# EAGLE library part PIC24FJ128GB204 (library clackboard_lib)
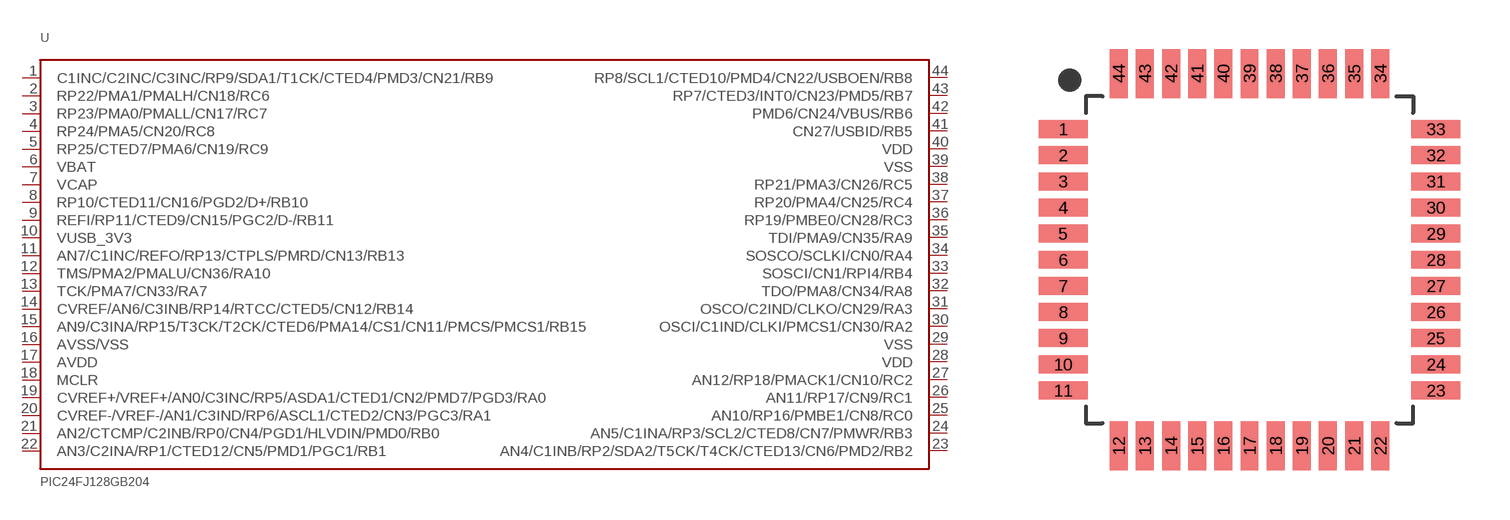
[diagram p8: symbol with the pads of PIC24FJ128GB204; footprint PIC24FJ128GB204]

Designator prefix U

## PIC24FJ128GB204  [PIC24FJ128GB204]
1  C1INC/C2INC/C3INC/RP9/SDA1/T1CK/CTED4/PMD3/CN21/RB9
2  RP22/PMA1/PMALH/CN18/RC6
3  RP23/PMA0/PMALL/CN17/RC7
4  RP24/PMA5/CN20/RC8
5  RP25/CTED7/PMA6/CN19/RC9
6  VBAT
7  VCAP
8  RP10/CTED11/CN16/PGD2/D+/RB10
9  REFI/RP11/CTED9/CN15/PGC2/D-/RB11
10  VUSB_3V3
11  AN7/C1INC/REFO/RP13/CTPLS/PMRD/CN13/RB13
12  TMS/PMA2/PMALU/CN36/RA10
13  TCK/PMA7/CN33/RA7
14  CVREF/AN6/C3INB/RP14/RTCC/CTED5/CN12/RB14
15  AN9/C3INA/RP15/T3CK/T2CK/CTED6/PMA14/CS1/CN11/PMCS/PMCS1/RB15
16  AVSS/VSS
17  AVDD
18  MCLR
19  CVREF+/VREF+/AN0/C3INC/RP5/ASDA1/CTED1/CN2/PMD7/PGD3/RA0
20  CVREF-/VREF-/AN1/C3IND/RP6/ASCL1/CTED2/CN3/PGC3/RA1
21  AN2/CTCMP/C2INB/RP0/CN4/PGD1/HLVDIN/PMD0/RB0
22  AN3/C2INA/RP1/CTED12/CN5/PMD1/PGC1/RB1
23  AN4/C1INB/RP2/SDA2/T5CK/T4CK/CTED13/CN6/PMD2/RB2
24  AN5/C1INA/RP3/SCL2/CTED8/CN7/PMWR/RB3
25  AN10/RP16/PMBE1/CN8/RC0
26  AN11/RP17/CN9/RC1
27  AN12/RP18/PMACK1/CN10/RC2
28  VDD
29  VSS
30  OSCI/C1IND/CLKI/PMCS1/CN30/RA2
31  OSCO/C2IND/CLKO/CN29/RA3
32  TDO/PMA8/CN34/RA8
33  SOSCI/CN1/RPI4/RB4
34  SOSCO/SCLKI/CN0/RA4
35  TDI/PMA9/CN35/RA9
36  RP19/PMBE0/CN28/RC3
37  RP20/PMA4/CN25/RC4
38  RP21/PMA3/CN26/RC5
39  VSS
40  VDD
41  CN27/USBID/RB5
42  PMD6/CN24/VBUS/RB6
43  RP7/CTED3/INT0/CN23/PMD5/RB7
44  RP8/SCL1/CTED10/PMD4/CN22/USBOEN/RB8

## Footprint PIC24FJ128GB204 (pad centres in mm)
smd 1.5 x 0.55: 1 -5.7,4; 2 -5.7,3.2; 3 -5.7,2.4; 4 -5.7,1.6; 5 -5.7,0.8; 6 -5.7,0; 7 -5.7,-0.8; 8 -5.7,-1.6; 9 -5.7,-2.4; 10 -5.7,-3.2; 11 -5.7,-4; 23 5.7,-4; 24 5.7,-3.2; 25 5.7,-2.4; 26 5.7,-1.6; 27 5.7,-0.8; 28 5.7,0; 29 5.7,0.8; 30 5.7,1.6; 31 5.7,2.4; 32 5.7,3.2; 33 5.7,4
smd 0.55 x 1.5: 12 -4,-5.7; 13 -3.2,-5.7; 14 -2.4,-5.7; 15 -1.6,-5.7; 16 -0.8,-5.7; 17 0,-5.7; 18 0.8,-5.7; 19 1.6,-5.7; 20 2.4,-5.7; 21 3.2,-5.7; 22 4,-5.7; 34 4,5.7; 35 3.2,5.7; 36 2.4,5.7; 37 1.6,5.7; 38 0.8,5.7; 39 0,5.7; 40 -0.8,5.7; 41 -1.6,5.7; 42 -2.4,5.7; 43 -3.2,5.7; 44 -4,5.7